# Altium schematic symbol library ESLSchlib.SchLib: 10 symbols
Pins are listed as number, name and electrical type; pins without a type are passive.

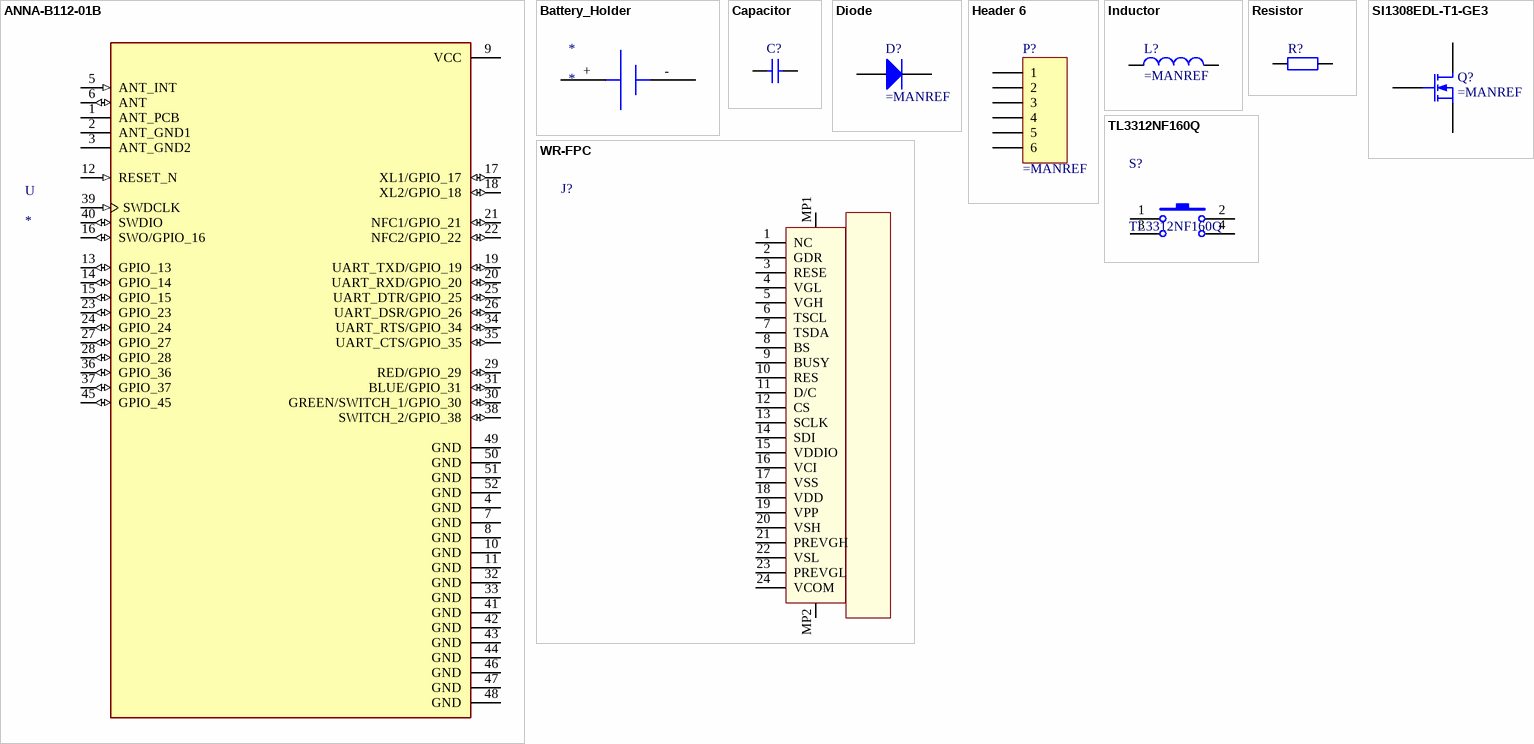
[diagram p0: symbols ANNA-B112-01B to WR-FPC]

## ANNA-B112-01B
designator U
MF: U-Blox America; MP: ANNA-B112; Price: None; Package: SMD-52 U-Blox America; SnapEDA_Link: https://www.snapeda.com/parts/ANNA-B112/U-Blox%20America%20Inc./view-part/3115089/?ref=snap; Value: *; Availability: Unavailable
pins: 1 ANT_PCB (power), 2 ANT_GND1 (power), 3 ANT_GND2 (power), 4 GND (power), 5 ANT_INT (in), 6 ANT (io), 7 GND (power), 8 GND (power), 9 VCC (power), 10 GND (power), 11 GND (power), 12 RESET_N (in), 13 GPIO_13 (io), 14 GPIO_14 (io), 15 GPIO_15 (io), 16 SWO/GPIO_16 (io), 17 XL1/GPIO_17 (io), 18 XL2/GPIO_18 (io), 19 UART_TXD/GPIO_19 (io), 20 UART_RXD/GPIO_20 (io), 21 NFC1/GPIO_21 (io), 22 NFC2/GPIO_22 (io), 23 GPIO_23 (io), 24 GPIO_24 (io), 25 UART_DTR/GPIO_25 (io), 26 UART_DSR/GPIO_26 (io), 27 GPIO_27 (io), 28 GPIO_28 (io), 29 RED/GPIO_29 (io), 30 GREEN/SWITCH_1/GPIO_30 (io), 31 BLUE/GPIO_31 (io), 32 GND (power), 33 GND (power), 34 UART_RTS/GPIO_34 (io), 35 UART_CTS/GPIO_35 (io), 36 GPIO_36 (io), 37 GPIO_37 (io), 38 SWITCH_2/GPIO_38 (io), 39 SWDCLK (in), 40 SWDIO (io), 41 GND (power), 42 GND (power), 43 GND (power), 44 GND (power), 45 GPIO_45 (io), 46 GND (power), 47 GND (power), 48 GND (power), 49 GND (power), 50 GND (power), 51 GND (power), 52 GND (power)

## Battery_Holder
designator *
pins: +, -

## Capacitor
designator C?  (value not drawn)
pins: 1, 2

## Diode
designator D?
Diode
pins: 1 A, 2 K

## Header 6
designator P?
Header, 6-Pin
pins: 1, 2, 3, 4, 5, 6

## Inductor
designator L?
Inductor
pins: 1, 2

## Resistor
designator R?  (value not drawn)
pins: 1, 2

## SI1308EDL-T1-GE3
designator Q?
pins: 1 G, 2 S, 3 D

## TL3312NF160Q
designator S?
pins: 1, 2, 3, 4

## WR-FPC
designator J?
ComponentLink1Description: Manufacturer; ComponentLink1URL: http://www.we-online.de; ComponentLink2Description: Datasheet; ComponentLink2URL: https://katalog.we-online.com/em/datasheet/68712414022.pdf
pins: 1 NC, 2 GDR, 3 RESE, 4 VGL, 5 VGH, 6 TSCL, 7 TSDA, 8 BS, 9 BUSY, 10 RES, 11 D/C, 12 CS, 13 SCLK, 14 SDI, 15 VDDIO, 16 VCI, 17 VSS, 18 VDD, 19 VPP, 20 VSH, 21 PREVGH, 22 VSL, 23 PREVGL, 24 VCOM, MP1, MP2